# Altium schematic symbol library test-2.SchLib: 2 symbols
Pins are listed as number, name and electrical type; pins without a type are passive.

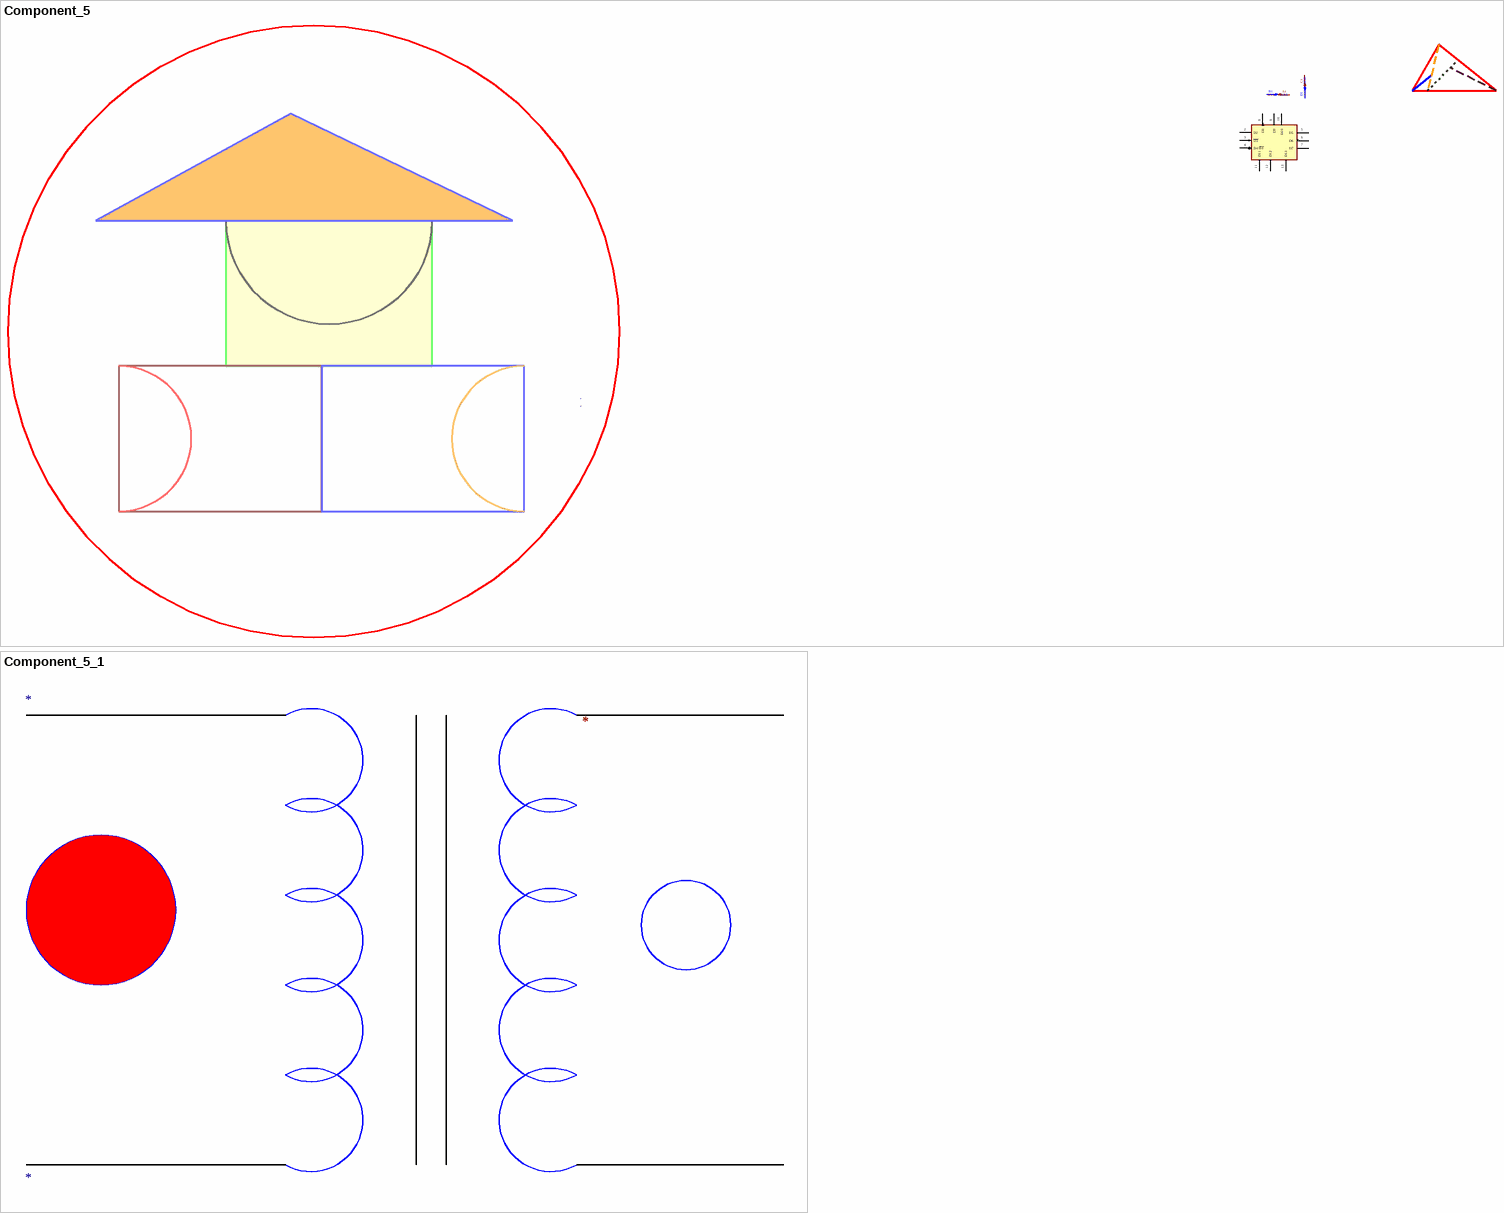
[diagram p0: symbols Component_5 to Component_5_1]

## Component_5
designator *
pins: 2 D2, 3 ~{D3} (in), 4 D4/~{B4} (io), 5 D5 (oc), 6 D6 (out), 7 D7 (hiz), 8 D8 (out), 9 D9, 10 D10, 11 D11, 12 D12, 13 D13, A1 AAA (io), B1 BBB (io), C1 CCC (io), D1 DDD (io)

## Component_5_1
designator *